# Altium schematic symbol library ConnectorLib.SchLib: 11 symbols
Pins are listed as number, name and electrical type; pins without a type are passive.

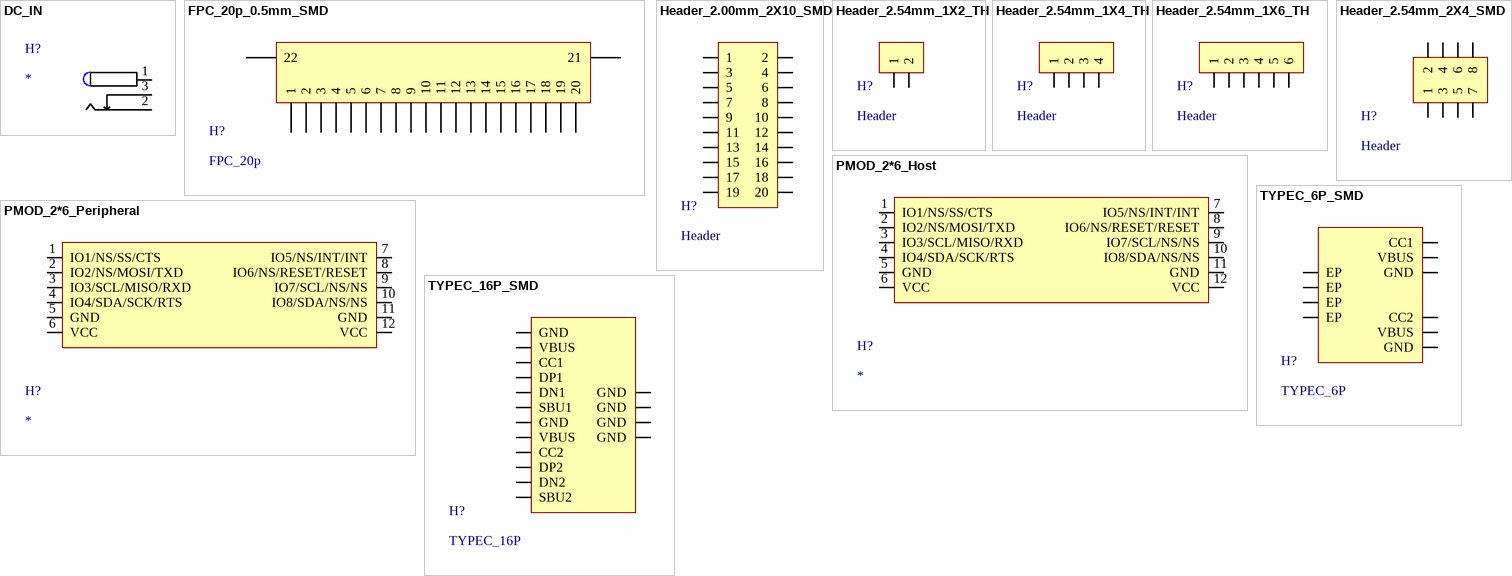
[diagram p0: symbols DC_IN to TYPEC_16P_SMD]

## DC_IN
designator H?
footprint DC2.0_IN_TH
pins: 1, 2, 3

## FPC_20p_0.5mm_SMD
designator H?, comment FPC_20p
footprint FPC_0.5mm_20P_SMD
pins: 1, 2, 3, 4, 5, 6, 7, 8, 9, 10, 11, 12, 13, 14, 15, 16, 17, 18, 19, 20, 21, 22

## Header_2.00mm_2X10_SMD
designator H?, comment Header
footprint Header_2.00_2X10_SMD
pins: 1, 2, 3, 4, 5, 6, 7, 8, 9, 10, 11, 12, 13, 14, 15, 16, 17, 18, 19, 20

## Header_2.54mm_1X2_TH
designator H?, comment Header
footprint Header_2.54_1X2_TH
pins: 1, 2

## Header_2.54mm_1X4_TH
designator H?, comment Header
footprint Header_2.54_1X4_TH
pins: 1, 2, 3, 4

## Header_2.54mm_1X6_TH
designator H?, comment Header
footprint Header_2.54_1X6_TH
pins: 1, 2, 3, 4, 5, 6

## Header_2.54mm_2X4_SMD
designator H?, comment Header
footprint Header_2.54_2X4_SMD
pins: 1, 2, 3, 4, 5, 6, 7, 8

## PMOD_2*6_Host
designator H?
footprint PMOD_2*6_HOST
pins: 1 IO1/NS/SS/CTS, 2 IO2/NS/MOSI/TXD, 3 IO3/SCL/MISO/RXD, 4 IO4/SDA/SCK/RTS, 5 GND, 6 VCC, 7 IO5/NS/INT/INT, 8 IO6/NS/RESET/RESET, 9 IO7/SCL/NS/NS, 10 IO8/SDA/NS/NS, 11 GND, 12 VCC

## PMOD_2*6_Peripheral
designator H?
footprint PMOD_2*6_PERIPHERAL
pins: 1 IO1/NS/SS/CTS, 2 IO2/NS/MOSI/TXD, 3 IO3/SCL/MISO/RXD, 4 IO4/SDA/SCK/RTS, 5 GND, 6 VCC, 7 IO5/NS/INT/INT, 8 IO6/NS/RESET/RESET, 9 IO7/SCL/NS/NS, 10 IO8/SDA/NS/NS, 11 GND, 12 VCC

## TYPEC_6P_SMD
designator H?, comment TYPEC_6P
footprint TYPEC-SMD
pins: 1 EP, 2 EP, 3 EP, 4 EP, A5 CC1, A9 VBUS, A12 GND, B5 CC2, B9 VBUS, B12 GND

## TYPEC_16P_SMD
designator H?, comment TYPEC_16P
footprint TYPEC_SMD_16P
pins: 13 GND, 14 GND, 15 GND, 16 GND, A1B12 GND, A4B9 VBUS, A5 CC1, A6 DP1, A7 DN1, A8 SBU1, B1A12 GND, B4A9 VBUS, B5 CC2, B6 DP2, B7 DN2, B8 SBU2